# Altium schematic symbol library Schlib2.SchLib: 15 symbols
Pins are listed as number, name and electrical type; pins without a type are passive.

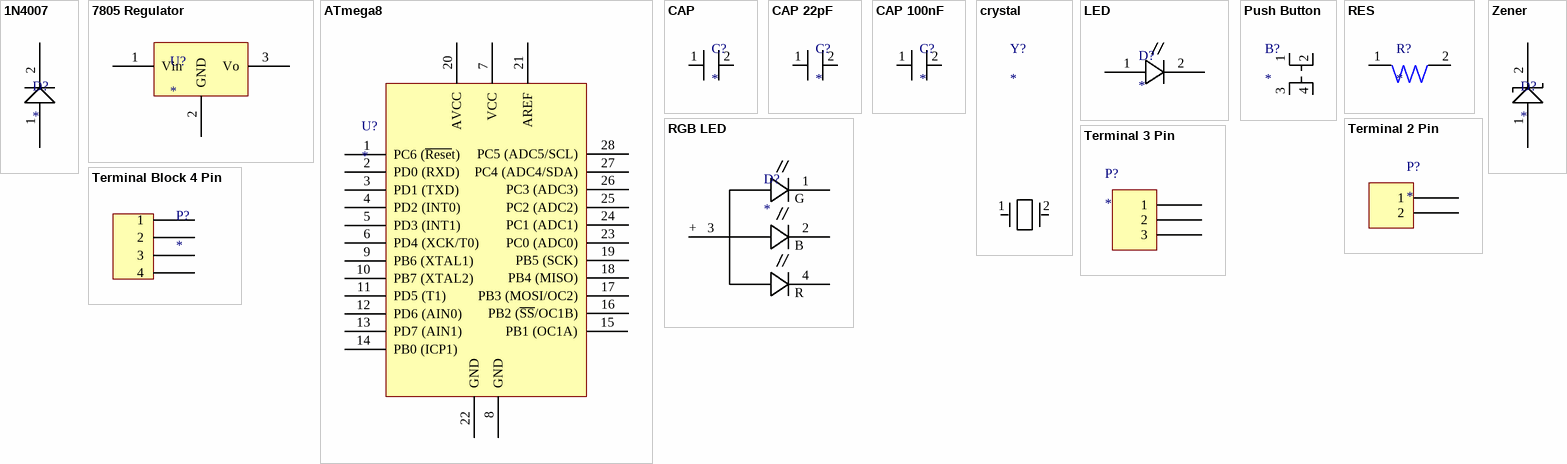
[diagram p0: symbols 1N4007 to Zener]

## 1N4007
designator D?
footprint 1N4007
pins: 1 76, 2

## 7805 Regulator
designator U?
footprint 7805 Reg
pins: 1 Vin, 2 GND, 3 Vo

## ATmega8
designator U?
footprint ATmega8A-PU
pins: 1 PC6 (~{Rese}t), 2 PD0 (RXD), 3 PD1 (TXD), 4 PD2 (INT0), 5 PD3 (INT1), 6 PD4 (XCK/T0), 7 VCC, 8 GND, 9 PB6 (XTAL1), 10 PB7 (XTAL2), 11 PD5 (T1), 12 PD6 (AIN0), 13 PD7 (AIN1), 14 PB0 (ICP1), 15 PB1 (OC1A), 16 PB2 (~{SS}/OC1B), 17 PB3 (MOSI/OC2), 18 PB4 (MISO), 19 PB5 (SCK), 20 AVCC, 21 AREF, 22 GND, 23 PC0 (ADC0), 24 PC1 (ADC1), 25 PC2 (ADC2), 26 PC3 (ADC3), 27 PC4 (ADC4/SDA), 28 PC5 (ADC5/SCL)

## CAP
designator C?
footprint CAP
pins: 1, 2

## CAP 22pF
designator C?
footprint CAP 22pF
pins: 1, 2

## CAP 100nF
designator C?
footprint CAP 100nF
pins: 1, 2

## crystal
designator Y?
Parameter 4: *
footprint crystal
pins: 1, 2

## LED
designator D?
footprint LED
pins: 1 2, 2

## Push Button
designator B?
footprint Push Button
pins: 1 4, 2 3, 3 4, 4

## RES
designator R?
footprint RES
pins: 1, 2

## RGB LED
designator D?
footprint RGB LED
pins: 1 2, 2, 3 5, 4 2
text: G; +; B; R

## Terminal 2 Pin
designator P?
footprint Terminal 2 Pin
pins: 1, 2

## Terminal 3 Pin
designator P?
footprint Terminal 3 Pin
pins: 1, 2, 3

## Terminal Block 4 Pin
designator P?
footprint Terminal Block 4 Pin
pins: 1, 2, 3, 4

## Zener
designator D?
footprint 1N4007
pins: 1 76, 2